# EAGLE library part 51296-0894 (library Connectors)
0.5mm-8pins FFC & FPC Connector Right Angle, Bottom Contact
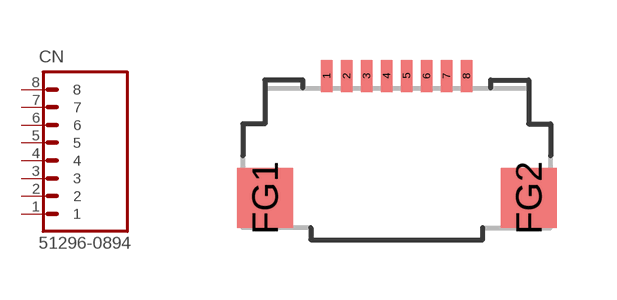
[diagram p12: symbol with the pads of 51296-0894; footprint 51296-0894]

Designator prefix CN

## 51296-0894  [51296-0894]
1  1  pas
2  2  pas
3  3  pas
4  4  pas
5  5  pas
6  6  pas
7  7  pas
8  8  pas

## Footprint 51296-0894 (pad centres in mm)
0.5mm-8pins FFC & FPC Connector Right Angle, Bottom Contact
smd 0.28 x 0.8: 1 -1.75,3.8; 2 -1.25,3.8; 3 -0.75,3.8; 4 -0.25,3.8; 5 0.25,3.8; 6 0.75,3.8; 7 1.25,3.8; 8 1.75,3.8
smd 1.4 x 1.5: FG1 -3.3,0.75; FG2 3.3,0.75